# Altium footprint library battery_18650_4.PcbLib: 2 footprints
Each footprint in its own frame and in the unit in brackets; x right, y up, seen from the top. Pads: shape width x height; smd on the part's side, far side on the other; paste and mask are expansions set on the pad; w line width, h text height; cw(c..) or ccw(c..) is an arc to the next point about the centre after c.
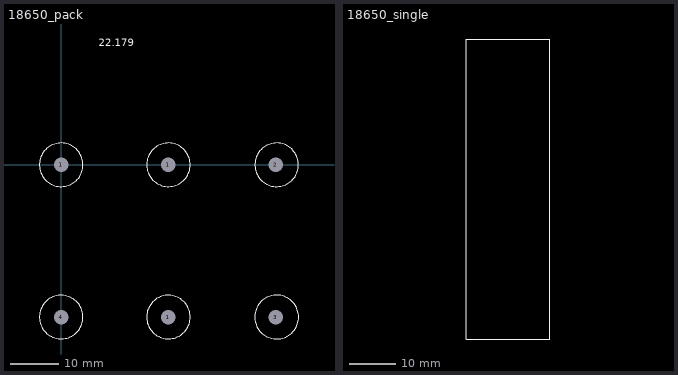
[diagram p0: the footprints below, top view; thin cyan lines are the x and y axes]

## 18650_pack [mil]
pads (6):
  round 60 hole 118.11: 1(0,0) 1(873.19,-1240.16) 1(873.19,0) 2(1746.38,0) 3(1746.38,-1240.16) 4(0,-1240.16)
Top Overlay:
  circle w10: c873.19,0 r177.56
  circle w10: c873.19,-1240.16 r177.56
  circle w10: c1755.08,-1240.16 r178.73
  circle w10: c0,-1240.16 r177.56
  circle w10: c1755.08,0 r177.56
  circle w10: c0,0 r177.56
  text "22.179" at 307.09,964.57 h60
3D body "Battery_Bracket_Double.STEP": height 834.65, standoff -7.87, extent -48.08,-295.27 2676.33,295.28
3D body "User Library-18650 battery.STEP": height 722.98, standoff 7.09, extent 1828.41,-1903.46 2544.95,661.5
3D body "User Library-18650 battery.STEP": height 722.98, standoff 7.09, extent 955.22,-1903.46 1671.76,661.5
3D body "User Library-18650 battery.STEP": height 722.98, standoff 7.09, extent 82.03,-1902.4 798.57,662.56
3D body "User Library-18650 battery.STEP": height 722.98, standoff 7.09, extent -791.16,-1901.34 -74.62,663.62
3D body "Battery_Bracket_Double.STEP": height 834.65, standoff -7.87, extent -921.26,-295.28 1803.15,295.27
3D body "Battery_Bracket_Double.STEP": height 834.65, standoff -7.87, extent -920.88,-1535.43 1803.53,-944.88
3D body "Battery_Bracket_Double.STEP": height 834.65, standoff -7.87, extent -48.08,-1535.43 2676.33,-944.88

## 18650_single [mil]
Top Overlay:
  lines w10: 1248.27,334.84 1248.27,2899.84 1963.27,2899.84 1963.27,334.84 1248.27,334.84
3D body "User Library-18650 battery.STEP": height 959.53, standoff 242.99, extent 1251.97,331.69 1968.5,2896.65